# Altium footprint library 55608303059.PcbLib: 1 footprints
Each footprint in its own frame and in the unit in brackets; x right, y up, seen from the top. Pads: shape width x height; smd on the part's side, far side on the other; paste and mask are expansions set on the pad; w line width, h text height; cw(c..) or ccw(c..) is an arc to the next point about the centre after c.
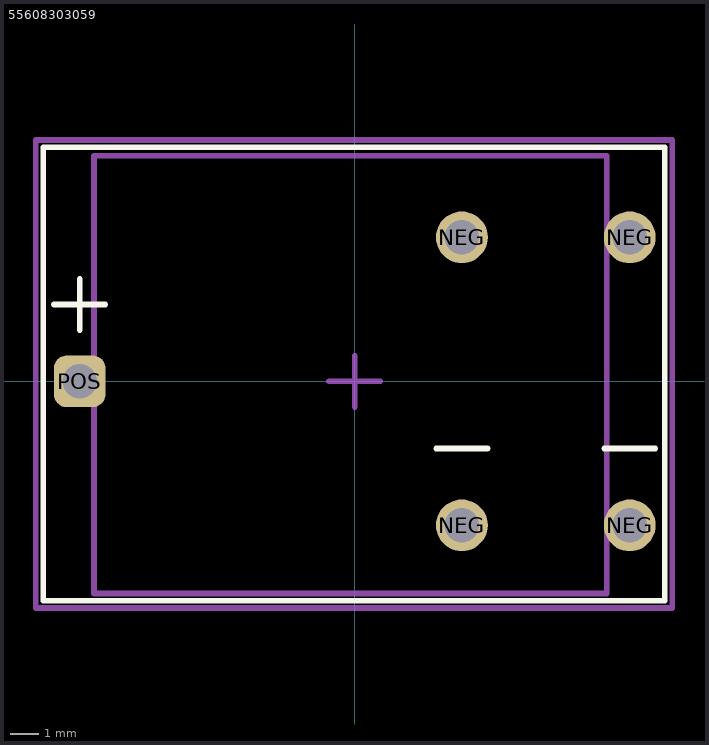
[diagram p0: the footprint, top view; thin cyan lines are the x and y axes]

## 55608303059 [mm]
pads (5):
  round 1.8 hole 1.2 mask+0.05: NEG(3.72,-5) NEG(3.72,5) NEG(9.55,-5) NEG(9.55,5)
  rrect50% 1.8x1.8 hole 1.2 mask+0.05: POS(-9.55,0)
Top Overlay:
  lines w0.2: -10.439,2.667 -9.55,2.667 ; -9.55,1.778 -9.55,2.667 ; -9.55,3.556 -9.55,2.667 ; -8.661,2.667 -9.55,2.667 ; 2.831,-2.333 3.72,-2.333 4.609,-2.333 ; 8.661,-2.333 9.55,-2.333 10.439,-2.333 ; -10.82,-7.62 -10.82,8.128 10.77,8.128 10.77,-7.62 -10.82,-7.62
Top Assembly:
  lines w0.2: -0.889,0 0,0 ; 0,-0.889 0,0 ; 0,0.889 0,0 ; 0.889,0 0,0 ; -9.052,-7.366 -9.052,6.223 -9.052,7.835 8.748,7.835 8.748,-7.366 -9.052,-7.366
Top Courtyard:
  lines w0.2: -11.074,-7.874 -11.074,8.382 11.024,8.382 11.024,-0.889 11.024,-7.874 -11.074,-7.874
3D body "User Library-BATT3V6.STEP": height 15.21, standoff -4.44, extent -9.052,-7.366 8.748,7.835